# EAGLE library part TOUCHSCREEN (library tap_test)
ILI9341, Adafruit 2.8" TFT LCD, Resistive Touch Screen
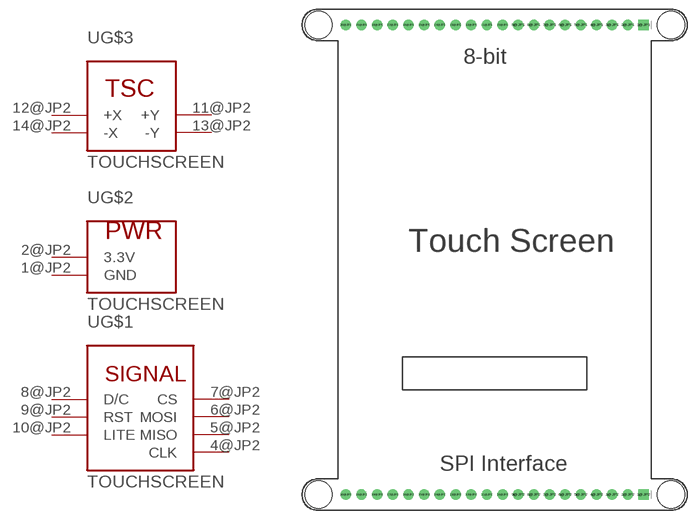
[diagram p1: symbol with the pads of TOUCHSCREEN; footprint TOUCHSCREEN]

Designator prefix U; gates G$1=TOUCHSCREEN_SPI G$2=TOUCHSCREEN_PWR G$3=TOUCHSCREEN_TSC

## TOUCHSCREEN  [TOUCHSCREEN]
1@JP2  G$2:GND
2@JP2  G$2:3.3V
4@JP2  G$1:CLK
5@JP2  G$1:MISO
6@JP2  G$1:MOSI
7@JP2  G$1:CS
8@JP2  G$1:D/C
9@JP2  G$1:RST
10@JP2  G$1:LITE
11@JP2  G$3:+Y
12@JP2  G$3:+X
13@JP2  G$3:-Y
14@JP2  G$3:-X

## Footprint TOUCHSCREEN (pad centres in mm)
Package generated by make-group2pac.ulp from: C:/Users/waywi/OneDrive - Rice University/Documents/EAGLE/libraries/Adafruit 2.8 TFT Breakout v2.brd at: 4/28/2023 6:12 AM
drill 1 pad 1.676 square: 1@JP1 24.13,38.1; 1@JP2 24.13,-38.1
drill 1 pad 1.676: 2@JP1 21.59,38.1; 2@JP2 21.59,-38.1; 3@JP1 19.05,38.1; 3@JP2 19.05,-38.1; 4@JP1 16.51,38.1; 4@JP2 16.51,-38.1; 5@JP1 13.97,38.1; 5@JP2 13.97,-38.1; 6@JP1 11.43,38.1; 6@JP2 11.43,-38.1; 7@JP1 8.89,38.1; 7@JP2 8.89,-38.1; 8@JP1 6.35,38.1; 8@JP2 6.35,-38.1; 9@JP1 3.81,38.1; 9@JP2 3.81,-38.1; 10@JP1 1.27,38.1; 10@JP2 1.27,-38.1; 11@JP1 -1.27,38.1; 11@JP2 -1.27,-38.1; 12@JP1 -3.81,38.1; 12@JP2 -3.81,-38.1; 13@JP1 -6.35,38.1; 13@JP2 -6.35,-38.1; 14@JP1 -8.89,38.1; 14@JP2 -8.89,-38.1; 15@JP1 -11.43,38.1; 15@JP2 -11.43,-38.1; 16@JP1 -13.97,38.1; 16@JP2 -13.97,-38.1; 17@JP1 -16.51,38.1; 17@JP2 -16.51,-38.1; 18@JP1 -19.05,38.1; 18@JP2 -19.05,-38.1; 19@JP1 -21.59,38.1; 19@JP2 -21.59,-38.1; 20@JP1 -24.13,38.1; 20@JP2 -24.13,-38.1